# Altium schematic symbol library SCH - DIODES - SCHOTTKY_MBR0520LT1G.SCHLIB: 1 symbol
Pins are listed as number, name and electrical type; pins without a type are passive.

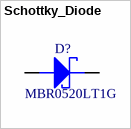
[diagram p0: symbol Schottky_Diode]

## Schottky_Diode
designator D?, comment MBR0520LT1G
Schottky Diode 0.5A 20V SOD-123; AN: 26768; Mixed: SMT; Extra: AEC−Q101; Value: 20V; Case: SOD123-FC; Voltage: 0.5A; HelpURL: B:\AD\adlib\datasheet\MBR0520; H-ART: MBR0520LT1G
pins: 1 KATHODE, 2 ANODE